# Altium footprint library L829-1J1T-JM.PcbLib: 1 footprints
Each footprint in its own frame and in the unit in brackets; x right, y up, seen from the top. Pads: shape width x height; smd on the part's side, far side on the other; paste and mask are expansions set on the pad; w line width, h text height; cw(c..) or ccw(c..) is an arc to the next point about the centre after c.
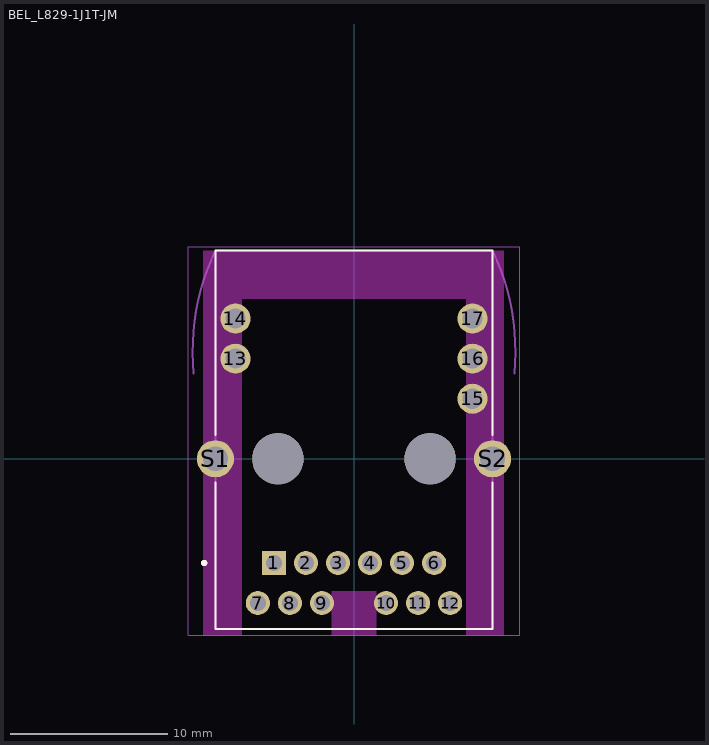
[diagram p0: the footprint, top view; thin cyan lines are the x and y axes]

## BEL_L829-1J1T-JM [mm]
pads (21):
  rect 1.53x1.53 hole 1.02: 1(-5.08,-6.604)
  round 1.53 hole 1.02: 2(-3.048,-6.604) 3(-1.016,-6.604) 4(1.016,-6.604) 5(3.048,-6.604) 6(5.08,-6.604) 7(-6.096,-9.144) 8(-4.064,-9.144) 9(-2.032,-9.144) 10(2.032,-9.144) 11(4.064,-9.144) 12(6.096,-9.144)
  round 1.905 hole 1.27: 13(-7.518,6.35) 14(-7.518,8.89) 15(7.518,3.81) 16(7.518,6.35) 17(7.518,8.89)
  round 2.355 hole 1.57: S1(-8.788,0) S2(8.788,0)
  round 3.25 hole 3.25 unplated: ""(-4.826,0) ""(4.826,0)
Top Overlay:
  circle w0.2: c-9.5,-6.604 r0.1
  lines w0.127: -8.788,-1.5 -8.788,-10.795 8.788,-10.795 8.788,-1.5 ; -8.788,1.5 -8.788,13.208 8.788,13.208 8.788,1.5
Keep-Out Layer:
  region: 1.397,-11.176 -1.397,-11.176 -1.397,-8.382 1.397,-8.382
  region: 9.5,-11.176 7.112,-11.176 7.112,10.16 -7.112,10.16 -7.112,-11.176 -9.55,-11.176 -9.55,13.208 9.5,13.208
  region: 1.397,-11.176 -1.397,-11.176 -1.397,-8.382 1.397,-8.382
  region: 9.5,-11.176 7.112,-11.176 7.112,10.16 -7.112,10.16 -7.112,-11.176 -9.55,-11.176 -9.55,13.208 9.5,13.208
Mechanical 13:
  circle w0.2: c-9.5,-6.604 r0.1
  lines w0.127: -10.18,5.402 cw(c4.969,6.728) -8.813,13.155 ; 8.813,13.155 cw(c-4.969,6.728) 10.18,5.402 ; -8.788,-10.795 8.788,-10.795 8.788,13.208 -8.788,13.208 -8.788,-10.795
Mechanical 15:
  lines w0.05: -10.5,-11.176 -10.5,13.458 10.5,13.458 10.5,-11.176 -10.5,-11.176
3D body "L829-1J1T-JM.stp": height 12.51, standoff -3.86, extent -10.305,-10.795 10.051,13.706